# Altium footprint library LED.PcbLib: 2 footprints
Each footprint in its own frame and in the unit in brackets; x right, y up, seen from the top. Pads: shape width x height; smd on the part's side, far side on the other; paste and mask are expansions set on the pad; w line width, h text height; cw(c..) or ccw(c..) is an arc to the next point about the centre after c.
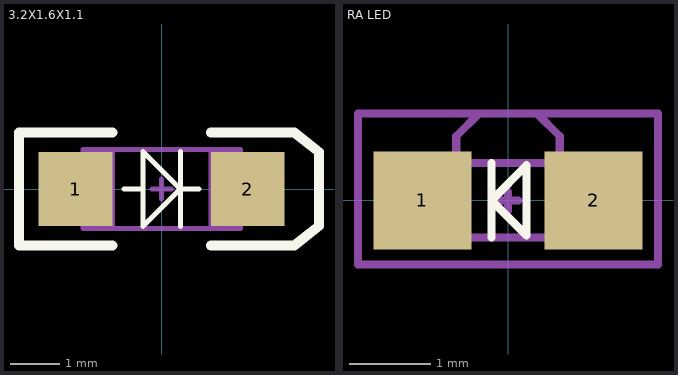
[diagram p0: the footprints below, top view; thin cyan lines are the x and y axes]

## 3.2X1.6X1.1 [mm] "SMT LED; 2 Flat Leads"
height 1.2
pads (2):
  rect 1.5x1.5 smd: 1(-1.75,0) 2(1.75,0)
Top Overlay:
  lines w0.1: -0.762,0 -0.381,0 ; 0.381,-0.762 0.381,0.762 ; 0.762,0 0.381,0 ; 0.381,0 -0.381,-0.762 -0.381,0.762 0.381,0
  lines w0.2: -1,-1.15 -2.9,-1.15 -2.9,1.15 -1,1.15 ; 1,-1.15 2.7,-1.15 3.2,-0.75 3.2,0.75 2.7,1.15 1,1.15
Mechanical 13:
  lines w0.1: -1.6,-0.6 -1.1,-0.6 -1.1,0.6 -1.6,0.6 ; -0.2,0 0.2,0 ; 0,-0.2 0,0.2 ; 1.6,-0.6 1.1,-0.6 1.1,0.6 1.6,0.6 ; -1.6,-0.8 1.6,-0.8 1.6,0.8 -1.6,0.8 -1.6,-0.8 ; -1,-0.8 1,-0.8 1,0.8 -1,0.8 -1,-0.8
3D body: height 1.1, standoff 0.5, extent -0.999,-0.799 0.999,0.799
3D body: height 0.5, standoff 0, extent -1.65,-0.85 1.65,0.85

## RA LED [mm] "Right Angle LED; 2 Flat Leads"
height 0.55
pads (2):
  rect 1.2x1.2 smd: 1(-1.05,0) 2(1.05,0)
Top Overlay:
  lines w0.1: -0.203,-0.457 -0.203,0.457 ; -0.203,0 0.229,0.432 0.229,-0.432 -0.203,0
Mechanical 13:
  lines w0.1: -0.127,0 0.127,0 ; 0,-0.127 0,0.102 ; -1.143,-0.457 1.143,-0.457 1.143,0.457 -1.143,0.457 -1.143,-0.457 ; -0.635,0.457 0.635,0.457 0.635,0.787 0.356,1.067 -0.356,1.067 -0.635,0.787 -0.635,0.457
Mechanical 15:
  lines w0.1: -1.841,-0.787 -1.841,1.067 1.841,1.067 1.841,-0.787 -1.841,-0.787
3D body: height 0.55, standoff 0, extent -1.143,-0.457 1.143,0.457
3D body: height 0.55, standoff 0, extent -0.641,0.457 0.635,1.067